# Altium footprint library 5Vregulator.PcbLib: 1 footprints
Each footprint in its own frame and in the unit in brackets; x right, y up, seen from the top. Pads: shape width x height; smd on the part's side, far side on the other; paste and mask are expansions set on the pad; w line width, h text height; cw(c..) or ccw(c..) is an arc to the next point about the centre after c.
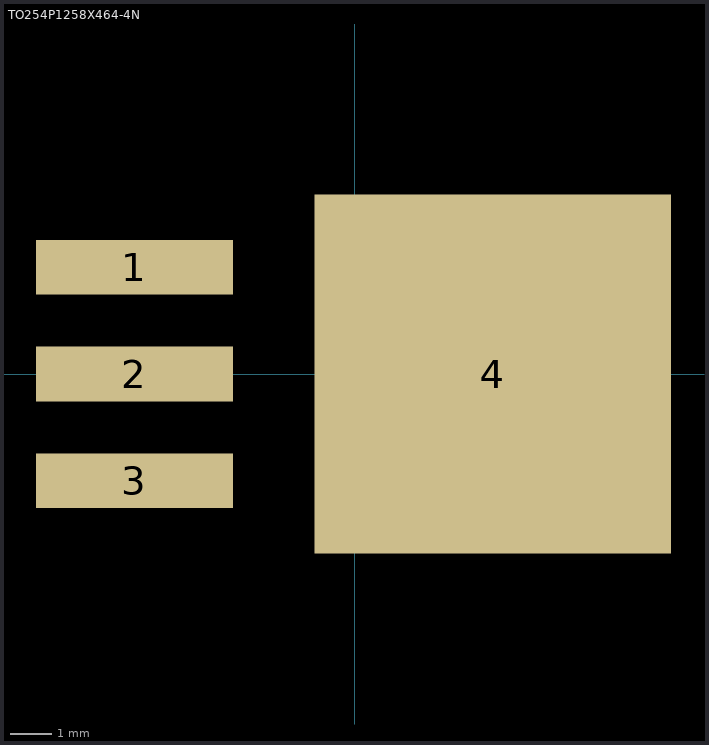
[diagram p0: the footprint, top view; thin cyan lines are the x and y axes]

## TO254P1258X464-4N [mm] "TO, 4-Pads, Body 8.9x10.4mm (max), IPC Medium Density"
height 4.64
pads (4):
  rect 4.7x1.3 smd: 1(-5.25,2.54) 2(-5.25,0) 3(-5.25,-2.54)
  rect 8.5x8.55 smd: 4(3.3,0)